# EAGLE library part ADG736 (library ADG736)
The ADG736 is a monolithic device comprising two independ- ently selectable CMOS single pole, double throw (SPDT) switches. These switches are designed using a submicron process that provides low power dissipation yet gives high switching speed, low on resistance, low leakage currents, and wide input signal bandwidth.
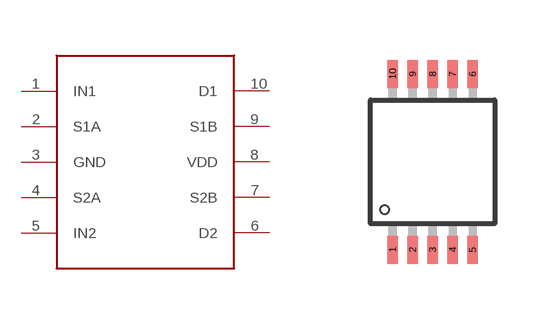
[diagram p0: symbol with the pads of ADG736; footprint ADG736]

Designator prefix -

## ADG736  [ADG736]
1  IN1
2  S1A
3  GND
4  S2A
5  IN2
6  D2
7  S2B
8  VDD
9  S1B
10  D1

## Footprint ADG736 (pad centres in mm)
smd 0.254 x 0.7: 1 -1,-2.2; 2 -0.5,-2.2; 3 0,-2.2; 4 0.5,-2.2; 5 1,-2.2; 6 1,2.2; 7 0.5,2.2; 8 0,2.2; 9 -0.5,2.2; 10 -1,2.2